# Altium footprint library PCB_PassiveInd.PcbLib: 9 footprints
Each footprint in its own frame and in the unit in brackets; x right, y up, seen from the top. Pads: shape width x height; smd on the part's side, far side on the other; paste and mask are expansions set on the pad; w line width, h text height; cw(c..) or ccw(c..) is an arc to the next point about the centre after c.
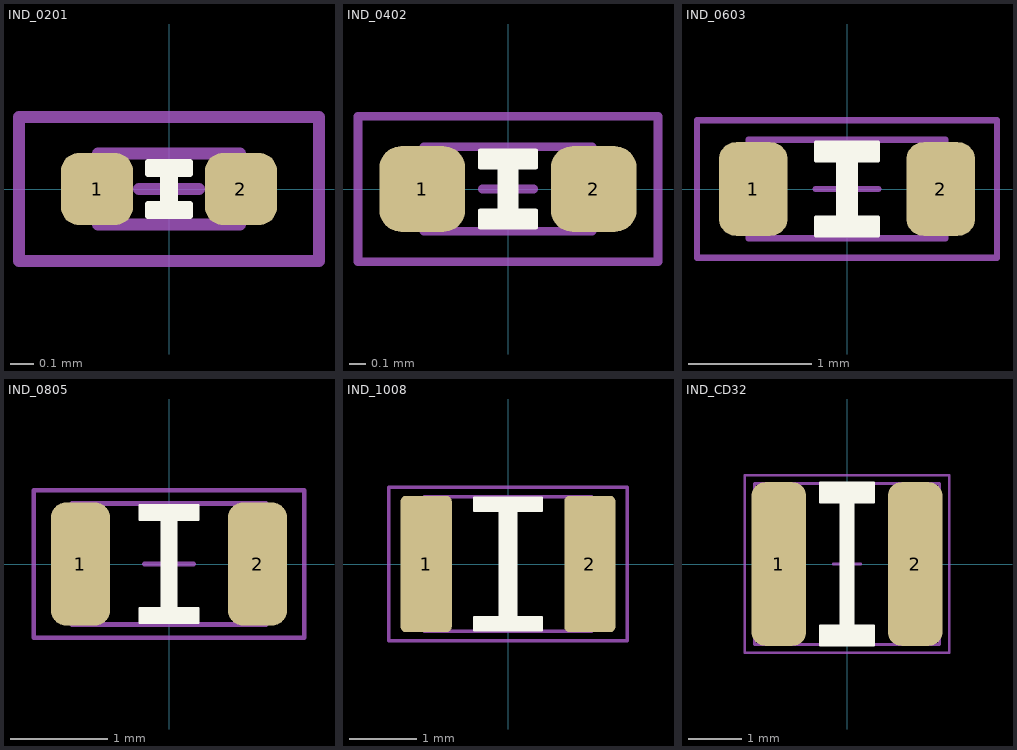
[diagram p0: the footprints below, top view; thin cyan lines are the x and y axes]

## IND_0201 [mil]
height 15.75
pads (2):
  rrect50% 12x12 smd: 1(-12,0) 2(12,0)
Top Overlay:
  region: -3.5,4.5 3.5,4.5 3.5,2.5 1,2.5 1,-2.5 3.5,-2.5 3.5,-4.5 -3.5,-4.5 -3.5,-2.5 -1,-2.5 -1,2.5 -3.5,2.5
  lines w1: -3.5,-4.5 3.5,-4.5 3.5,-2.5 1,-2.5 1,2.5 3.5,2.5 3.5,4.5 -3.5,4.5 -3.5,2.5 -1,2.5 -1,-2.5 -3.5,-2.5 -3.5,-4.5
Mechanical 13:
  lines w2: -5,0 5,0 ; 0,-5 0,5 ; -11.81,-5.91 -11.81,5.91 11.81,5.91 11.81,-5.91 -11.81,-5.91
T-Component:
  lines w2: -25,-12 -25,12 25,12 25,-12 -25,-12
  text ".Designator" at -13,-8 h30
3D body "INDC0603X03L.step": height 11.81, standoff 0, extent -11.81,-5.9 11.81,5.91

## IND_0402 [mil]
height 21.65
pads (2):
  rrect50% 20x20 smd: 1(-20,0) 2(20,0)
Top Overlay:
  region: -6.5,9 6.5,9 6.5,5 2,5 2,-5 6.5,-5 6.5,-9 -6.5,-9 -6.5,-5 -2,-5 -2,5 -6.5,5
  lines w1: -6.5,-9 -6.5,-5 -2,-5 -2,5 -6.5,5 -6.5,9 6.5,9 6.5,5 2,5 2,-5 6.5,-5 6.5,-9 -6.5,-9
Mechanical 13:
  lines w2: -6,0 6,0 ; 0,-6 0,6 ; -19.69,-9.84 -19.69,9.84 19.68,9.84 19.68,-9.84 -19.69,-9.84
T-Component:
  lines w2: -35,-17 -35,17 35,17 35,-17 -35,-17
  text ".Designator" at -14.68,-9.99 h40
3D body "INDC1005X05L.step": height 19.68, standoff 0, extent -19.68,-9.84 19.69,9.85

## IND_0603 [mil]
height 31.5
pads (2):
  rrect50% 22x30 smd: 1(-30,0) 2(30,0)
Top Overlay:
  region: -10,15 10,15 10,9 3,9 3,-9 10,-9 10,-15 -10,-15 -10,-9 -3,-9 -3,9 -10,9
  lines w1: -10,-15 10,-15 10,-9 3,-9 3,9 10,9 10,15 -10,15 -10,9 -3,9 -3,-9 -10,-9 -10,-15
Mechanical 13:
  lines w2: -10,0 10,0 ; 0,-10 0,10 ; -31.5,-15.75 31.5,-15.75 31.5,15.75 -31.5,15.75 -31.5,-15.75
T-Component:
  lines w2: -48,-22 48,-22 48,22 -48,22 -48,-22
  text ".Designator" at -25,-15 h60
3D body "INDC1608X08L.step": height 31.5, standoff 0, extent -31.49,-15.75 31.5,15.75

## IND_0805 [mil]
height 35.43
pads (2):
  rrect50% 24x50 smd: 1(-36,0) 2(36,0)
Top Overlay:
  region: -12,18 -12,24 12,24 12,18 3,18 3,-18 12,-18 12,-24 -12,-24 -12,-18 -3,-18 -3,18
  lines w1: -12,-24 -12,-18 -3,-18 -3,18 -12,18 -12,24 12,24 12,18 3,18 3,-18 12,-18 12,-24 -12,-24
Mechanical 13:
  lines w2: -10,0 10,0 ; 0,-10 0,10 ; -39.37,-24.61 39.37,-24.61 39.37,24.61 -39.37,24.61 -39.37,-24.61
T-Component:
  lines w2: -55,-30 -55,30 55,30 55,-30 -55,-30
  text ".Designator" at -31,-20 h80
3D body "INDC2012X10L.step": height 39.37, standoff 0, extent -39.37,-24.6 39.37,24.61

## IND_1008 [mil]
height 35.43
pads (2):
  rrect20% 30x80 smd: 1(-48,0) 2(48,0)
Top Overlay:
  region: -19.99,39.01 20.01,39.01 20.01,31.01 5.01,31.01 5.01,-31 20,-31 20,-39 -20,-39 -20,-31 -4.99,-31 -4.99,31.01 -19.99,31.01
  lines w1: -20,-39 -20,-31 -5,-31 -4.99,31.01 -19.99,31.01 -19.99,39.01 20.01,39.01 20.01,31.01 5.01,31.01 5.01,-31 20,-31 20,-39 -20,-39
Mechanical 13:
  lines w2: -49.21,39.37 49.21,39.37 ; -49.21,39.37 -49.21,39.37 ; -49.21,39.37 -49.21,-39.37 49.22,-39.37 49.22,39.37 ; 49.21,39.37 49.22,39.37
T-Component:
  lines w2: -70,-45 -70,45 70,45 70,-45 -70,-45
  text ".Designator" at -31,-20 h80
3D body "INDC2012X10L.step": height 39.37, standoff 0, extent -39.37,-24.6 39.37,24.61

## IND_1206 [mil]
height 35.43
3D body "INDC3216X130N EIA 1206.step": height 51.18, standoff 0, extent -62.99,-31.49 63,31.5

## IND_1210 [mil]
height 35.43
3D body "INDC3225X135N EIA 1210.step": height 53.15, standoff 0, extent -62.99,-49.2 63,49.22

## IND_CD32 [mil]
pads (2):
  rrect50% 40x120 smd: 1(-50,0) 2(50,0)
Top Overlay:
  region: -20,60 20,60 20,45 5,45 5,-45 20,-45 20,-60 -20,-60 -20,-45 -5,-45 -5,45 -20,45
  lines w1: -20,-60 -20,-45 -5,-45 -5,45 -20,45 -20,60 20,60 20,45 5,45 5,-45 20,-45 20,-60 -20,-60
Mechanical 13:
  lines w2: -10,0 10,0 ; 0,-10 0,10 ; -67.88,-59.05 67.88,-59.05 67.88,59.06 -67.88,59.06 -67.88,-59.05
T-Component:
  lines w2: -75,-65 75,-65 75,65 -75,65 -75,-65
3D body "User Library-CD32-3_5x2_1.STEP": height 82.68, standoff 0, extent -67.88,-59.05 67.88,59.06

## Z_REC [mil]
3D body "User Library-Chip Inductor 0402.step": height 19.68, standoff 0, extent 52.31,23.19 91.69,46.81
3D body "INDC1005X05L.step": height 19.68, standoff 0, extent -19.68,25.16 19.69,44.85
3D body "INDC1608X08L.step": height 31.5, standoff 0, extent -31.49,-15.74 31.5,15.75
3D body "User Library-Chip Inductor.step": height 31.5, standoff 0, extent 40.5,-17.7 103.5,19.7